# Altium footprint library Khoa so dien tu.PcbLib: 20 footprints (part 1 of 2)
Each footprint in its own frame and in the unit in brackets; x right, y up, seen from the top. Pads: shape width x height; smd on the part's side, far side on the other; paste and mask are expansions set on the pad; w line width, h text height; cw(c..) or ccw(c..) is an arc to the next point about the centre after c.
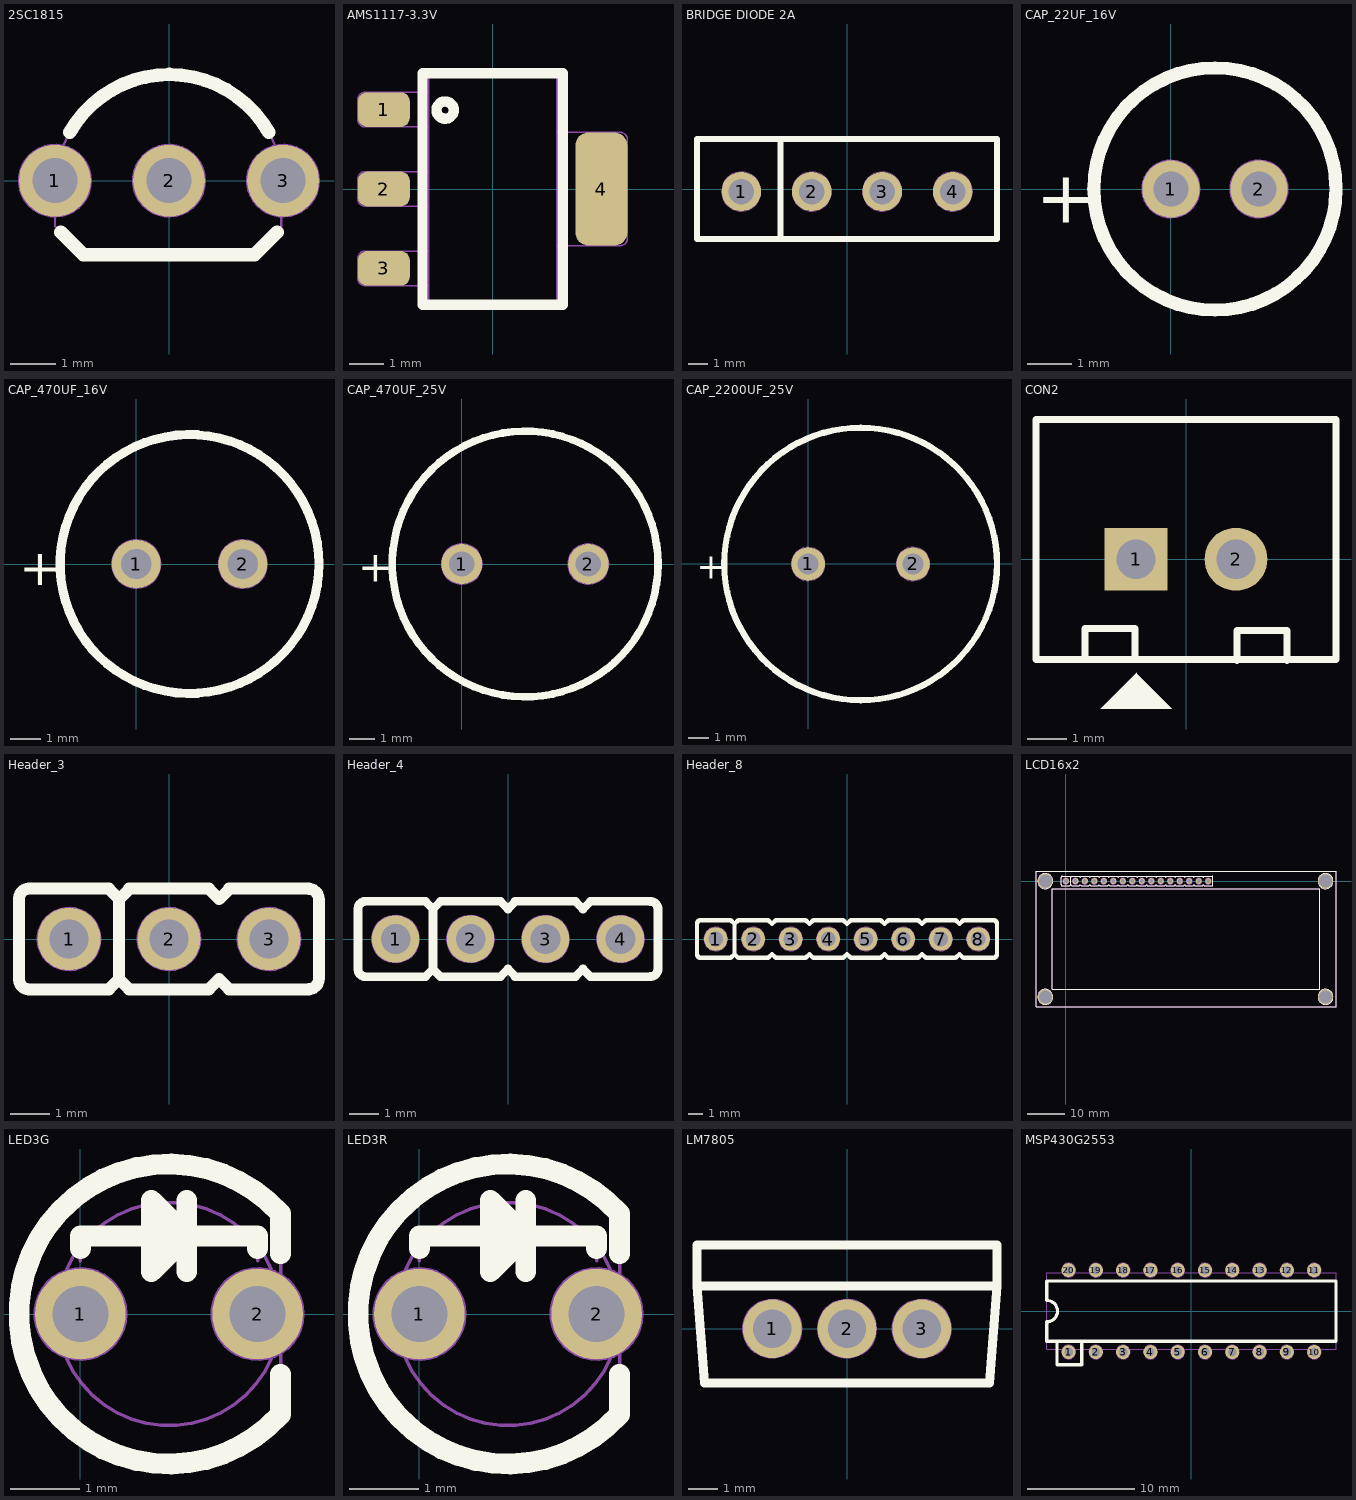
[diagram p0: the footprints below, top view; thin cyan lines are the x and y axes]

## 2SC1815 [mm] "TO-92 Bent Lead, Flat Index; 3 In-Line, Axial Leads; Body Dia. 4.5mm; Leads 0.51 x 0.48 mm (max)"
height 6.5
pads (3):
  round 1.6 hole 1 mask+0.1: 1(-2.54,0) 2(0,0)
  round 1.6 hole 1: 3(2.54,0)
Top Overlay:
  lines w0.3: -2.413,-1.143 -1.905,-1.651 1.905,-1.651 2.413,-1.143 ; -2.212,1.074 cw(c0.006,-0.185) 2.221,1.079
Mechanical 1:
  circle w0.05: c-2.54,0 r0.8
  circle w0.05: c0,0 r0.8
  circle w0.05: c2.54,0 r0.8
  lines w0.05: -2.54,-0.8 -2.54,-1.016 -1.905,-1.651 1.905,-1.651 2.5,-1.056 2.5,-0.8 ; -2.351,0.789 cw(c0.006,-0.185) 2.364,0.785
  text "B" at 2.286,-0.381 h0.8
  text "C" at -0.254,-0.381 h0.8
  text "E" at -2.794,-0.381 h0.8
Mechanical 15:
  lines w0.1: -0.5,0 0.5,0 ; 0,-0.5 0,0.5
3D body: height 10, standoff -3, extent -2.79,-1.59 2.79,2.613

## AMS1117-3.3V [mm] "SOT223, 4-Leads, Body 6.7x7.3mm (max), Pitch 2.30mm, IPC Medium Density"
height 1.8
pads (4):
  rrect50% 1.5x1 smd: 1(-3.15,2.3) 2(-3.15,0) 3(-3.15,-2.3)
  rrect50% 1.5x3.28 smd: 4(3.15,0)
Top Overlay:
  circle w0.3: c-1.375,2.286 r0.25
  lines w0.3: -2.032,-3.355 2.032,-3.355 2.032,3.355 -2.032,3.355 -2.032,-3.355
Mechanical 1:
  lines w0.05: -1.89,1.8 -3.7,1.8 cw(c-3.7,2) -3.9,2 -3.9,2.6 cw(c-3.7,2.6) -3.7,2.8 -1.89,2.8 ; -1.855,-2.8 -3.7,-2.8 cw(c-3.7,-2.6) -3.9,-2.6 -3.9,-2 cw(c-3.7,-2) -3.7,-1.8 -1.855,-1.8 ; -1.855,-0.5 -3.7,-0.5 cw(c-3.7,-0.3) -3.9,-0.3 -3.9,0.3 cw(c-3.7,0.3) -3.7,0.5 -1.855,0.5 ; 1.855,-1.64 3.7,-1.64 ccw(c3.7,-1.44) 3.9,-1.44 3.9,1.44 ccw(c3.7,1.44) 3.7,1.64 1.855,1.64 ; -1.855,-3.355 -1.855,3.355 1.855,3.355 1.855,-3.355 -1.855,-3.355
  text "1" at -1.575,2.52 h1.2
  text "2" at -1.575,0.315 h1.2
  text "3" at -1.575,-1.89 h1.2

## BRIDGE DIODE 2A [mm] "KBP206 bridge diode 2A"
height 12.7
pads (4):
  round 2 hole 1.3 mask+0.1: 1(-5.37,-0.13) 2(-1.79,-0.13) 3(1.79,-0.13) 4(5.37,-0.13)
Top Overlay:
  lines w0.3: -3.38,-2.54 -3.38,2.54 ; 7.62,-2.54 7.62,2.54 ; 7.62,-2.54 -7.62,-2.54 -7.62,2.54 7.62,2.54 ; 7.62,-2.54 7.62,2.54
Mechanical 1:
  circle w0.05: c5.37,-0.13 r1
  circle w0.05: c1.79,-0.13 r1
  circle w0.05: c-1.79,-0.13 r1
  circle w0.05: c-5.37,-0.13 r1
  lines w0.05: -3.38,-2.54 -3.38,2.54 ; 7.62,-2.54 7.62,2.54 ; 7.62,-2.54 -7.62,-2.54 -7.62,2.54 7.62,2.54 ; 7.62,-2.54 7.62,2.54
  text "~" at 1.5,0.2 h1.2
  text "~" at -2.2,0.2 h1.2
  text "-" at 5.1,0.9 h1.2
  text "+" at -5.7,1 h1.2
  text "4" at 4.9,-0.8 h1.2
  text "1" at -5.5,-0.7 h1.2

## CAP_22UF_16V [mm] "Capacitor, Electrolytic, Radial; Body 5 x 11 mm (Dia.xH typ); Pin Spacing 2 mm (typ)"
height 12
pads (2):
  round 1.3 hole 0.8: 1(0,0) 2(2,0)
Top Overlay:
  circle w0.3: c1,0 r2.75
  text "+" at -3.064,-0.762 h1.2
Mechanical 1:
  circle w0.05: c0,0 r0.65
  circle w0.05: c2,0 r0.65
  circle w0.05: c1,0 r2.75
  text "+" at -1.5,-0.5 h1
  text "1" at -0.2,-0.5 h1
  text "2" at 1.7,-0.5 h1
3D body: height 11.53, standoff -3.27, extent -1.525,-2.525 3.525,2.525

## CAP_470UF_16V [mm] "Capacitor, Electrolytic, Radial; Body 8 x 11.5 mm (Dia.xH typ); Pin Spacing 3.5 mm (typ)"
height 12.5
pads (2):
  round 1.6 hole 1: 1(0,0) 2(3.5,0)
Top Overlay:
  circle w0.3: c1.75,0 r4.25
  text "+" at -3.85,-0.7 h1.2
Mechanical 1:
  circle w0.05: c1.75,0 r4.25
  circle w0.05: c0,0 r0.8
  circle w0.05: c3.5,0 r0.8
  text "+" at -2.05,-0.7 h1.5
  text "1" at -0.25,-0.6 h1.2
  text "2" at 3.15,-0.6 h1.2
3D body: height 12.03, standoff -3.48, extent -2.275,-4.025 5.775,4.025

## CAP_470UF_25V [mm] "Capacitor, Electrolytic, Radial; Body 10 x 12.5 mm (Dia.xH typ); Pin Spacing 5 mm (typ)"
height 13.5
pads (2):
  round 1.6 hole 1: 1(0,0) 2(5,0)
Top Overlay:
  circle w0.3: c2.5,0 r5.25
  text "+" at -4.1,-0.7 h1.2
Mechanical 1:
  circle w0.05: c2.5,0 r5.25
  circle w0.05: c0,0 r0.8
  circle w0.05: c5,0 r0.8
  text "+" at -2.2,-0.8 h1.5
  text "1" at -0.2,-0.5 h1.2
  text "2" at 4.6,-0.6 h1.2
3D body: height 14.1, standoff -4.72, extent -2.5,-4.994 7.5,4.994

## CAP_2200UF_25V [mm] "Capacitor, Electrolytic, Radial; Body 12.5 x 25 mm (Dia.xH typ); Pin Spacing 5 mm (typ)"
height 27
pads (2):
  round 1.6 hole 1: 1(0,0) 2(5,0)
Top Overlay:
  circle w0.3: c2.5,0 r6.5
  text "+" at -5.3,-0.7 h1.2
Mechanical 1:
  circle w0.05: c2.5,0 r6.5
  circle w0.05: c0,0 r0.8
  circle w0.05: c5,0 r0.8
  text "2" at 4.7,-0.6 h1.2
  text "1" at -0.2,-0.6 h1.2
  text "+" at -2.9,-0.7 h1.5

## CON2 [mm] "CON2"
height 5.08
pads (2):
  rect 1.6x1.6 hole 1 mask+0.1: 1(-1.27,0)
  round 1.6 hole 1 mask+0.1: 2(1.27,0)
Top Overlay:
  region: -2.172,-3.797 -0.368,-3.797 -1.257,-2.908 -1.257,-2.883
  lines w0.178: -2.565,-2.515 -2.565,-1.753 -1.295,-1.753 -1.295,-2.515 ; 1.295,-2.565 1.295,-1.803 2.565,-1.803 2.565,-2.565 ; -3.81,-2.54 3.81,-2.54 3.81,3.556 -3.81,3.556 -3.81,-2.54
Mechanical 1:
  region: -2.172,-3.797 -0.368,-3.797 -1.257,-2.908 -1.257,-2.883
  lines w0.05: -2.565,-2.515 -2.565,-1.753 -1.295,-1.753 -1.295,-2.515 ; 1.295,-2.565 1.295,-1.803 2.565,-1.803 2.565,-2.565 ; -3.81,-2.54 3.81,-2.54 3.81,3.556 -3.81,3.556 -3.81,-2.54
3D body: height 7, standoff -3.3, extent -3.75,-2.286 3.75,3.414

## Header_3 [mm] "Connector DIP, 3Pin_2.54mm"
height 5
pads (3):
  round 1.6 hole 1 mask+0.1: 1(-2.54,0) 2(0,0) 3(2.54,0)
Top Overlay:
  lines w0.3: -1.524,-1.28 -1.524,-1.27 ; -1.524,1.27 -1.27,1.016 ; -1.524,1.28 -3.57,1.28 ccw(c-3.55,1.02) -3.81,1 -3.81,-1 ccw(c-3.55,-1.02) -3.57,-1.28 -1.534,-1.28 -1.524,-1.27 ; -1.016,1.27 -1.27,1.016 ; -1.016,1.28 1.016,1.28 ; 1.016,-1.28 -1.016,-1.28 -1.27,-1.026 -1.27,-1.016 ; 1.016,-1.27 1.27,-1.016 1.27,-1.026 1.524,-1.28 3.556,-1.28 3.556,-1.27 ; 1.016,1.27 1.27,1.016 1.524,1.27 ; 1.524,1.28 3.556,1.28 3.556,1.27 ; 3.53,-1.28 ccw(c3.53,-1) 3.81,-1 3.81,1 ccw(c3.53,1) 3.53,1.28 ; -1.524,-1.27 -1.27,-1.016 ; -1.27,-1.016 -1.27,1.016
Mechanical 1:
  circle w0.05: c0,0 r0.8
  circle w0.05: c-2.54,0 r0.8
  circle w0.05: c2.54,0 r0.8
  lines w0.05: -1.524,-1.28 -1.524,-1.27 ; -1.524,1.27 -1.27,1.016 -1.016,1.27 ; -1.524,1.28 -3.57,1.28 ccw(c-3.55,1.02) -3.81,1 -3.81,-1 ccw(c-3.55,-1.02) -3.57,-1.28 -1.534,-1.28 -1.524,-1.27 ; -1.016,1.28 1.016,1.28 ; 1.016,-1.28 -1.016,-1.28 -1.27,-1.026 -1.27,-1.016 -1.524,-1.27 ; 1.016,-1.27 1.27,-1.016 1.27,-1.026 1.524,-1.28 3.556,-1.28 3.556,-1.27 ; 1.016,1.27 1.27,1.016 1.524,1.27 ; 1.524,1.28 3.556,1.28 3.556,1.27 ; 3.53,-1.28 ccw(c3.53,-1) 3.81,-1 3.81,1 ccw(c3.53,1) 3.53,1.28
  text "3" at 2.286,-0.254 h1.2
  text "1" at -2.794,-0.254 h1.2
3D body: height 10.1, standoff -1.5, extent -3.81,-1.27 3.81,1.27

## Header_4 [mm] "Connector DIP, 4Pin_2.54mm"
height 5
pads (4):
  round 1.6 hole 1 mask+0.1: 1(-3.81,0) 2(-1.27,0) 3(1.27,0) 4(3.81,0)
Top Overlay:
  lines w0.3: -2.794,-1.28 -2.794,-1.27 ; -2.794,1.27 -2.54,1.016 ; -2.794,1.28 -4.84,1.28 ccw(c-4.82,1.02) -5.08,1 -5.08,-1 ccw(c-4.82,-1.02) -4.84,-1.28 -2.804,-1.28 -2.794,-1.27 ; -2.286,1.27 -2.54,1.016 ; -2.286,1.28 -0.254,1.28 -0.254,1.27 0,1.016 0.254,1.27 ; 0.24,-1.28 2.276,-1.28 2.286,-1.27 ; 0.24,1.28 2.286,1.28 ; 0.254,-1.27 0,-1.016 -0.254,-1.27 -0.254,-1.28 -2.286,-1.28 -2.54,-1.026 ; 2.286,-1.28 2.286,-1.27 ; 2.286,1.27 2.54,1.016 2.794,1.27 ; 2.794,1.28 4.826,1.28 4.826,1.27 ; 4.8,-1.28 ccw(c4.8,-1) 5.08,-1 5.08,1 ccw(c4.8,1) 4.8,1.28 ; 4.826,-1.27 4.826,-1.28 2.794,-1.28 2.54,-1.026 2.54,-1.016 2.286,-1.27 ; -2.794,-1.27 -2.54,-1.016 -2.54,-1.026 ; -2.54,-1.026 -2.54,1.016
Mechanical 1:
  circle w0.05: c3.81,0 r0.8
  circle w0.05: c1.27,0 r0.8
  circle w0.05: c-1.27,0 r0.8
  circle w0.05: c-3.81,0 r0.8
  circle w0.05: c-3.81,0 r0.8
  lines w0.05: -2.794,-1.28 -2.794,-1.27 ; -2.794,1.27 -2.54,1.016 -2.286,1.27 ; -2.794,1.28 -4.84,1.28 ccw(c-4.82,1.02) -5.08,1 -5.08,-1 ccw(c-4.82,-1.02) -4.84,-1.28 -2.804,-1.28 -2.794,-1.27 ; -2.286,1.28 -0.254,1.28 -0.254,1.27 0,1.016 0.254,1.27 ; 0.24,-1.28 2.276,-1.28 2.286,-1.27 ; 0.24,1.28 2.286,1.28 ; 0.254,-1.27 0,-1.016 -0.254,-1.27 -0.254,-1.28 -2.286,-1.28 -2.54,-1.026 -2.54,-1.016 -2.794,-1.27 ; 2.286,-1.28 2.286,-1.27 ; 2.286,1.27 2.54,1.016 2.794,1.27 ; 2.54,-1.026 2.794,-1.28 4.826,-1.28 4.826,-1.27 ; 2.54,-1.016 2.286,-1.27 ; 2.794,1.28 4.826,1.28 4.826,1.27 ; 4.8,-1.28 ccw(c4.8,-1) 5.08,-1 5.08,1 ccw(c4.8,1) 4.8,1.28
  text "1" at -4.064,-0.254 h1.2
  text "4" at 3.556,-0.254 h1.2
3D body: height 10.1, standoff -1.5, extent -5.08,-1.27 5.08,1.27

## Header_8 [mm] "Connector DIP Male, 8Pin_2.54mm"
height 5
pads (8):
  round 1.6 hole 1 mask+0.1: 1(-8.89,0) 2(-6.35,0) 3(-3.81,0) 4(-1.27,0) 5(1.27,0) 6(3.81,0) 7(6.35,0) 8(8.89,0)
Top Overlay:
  lines w0.3: -7.874,-1.28 -7.874,-1.27 ; -7.874,1.27 -7.62,1.016 ; -7.874,1.28 -9.92,1.28 ccw(c-9.9,1.02) -10.16,1 -10.16,-1 ccw(c-9.9,-1.02) -9.92,-1.28 -7.884,-1.28 -7.874,-1.27 ; -7.366,1.27 -7.62,1.016 ; -7.366,1.28 -5.334,1.28 -5.334,1.27 -5.08,1.016 -4.826,1.27 ; -4.84,-1.28 -2.804,-1.28 -2.794,-1.27 ; -4.84,1.28 -2.794,1.28 ; -4.826,-1.27 -5.08,-1.016 -5.334,-1.27 -5.334,-1.28 -7.366,-1.28 -7.62,-1.026 ; -2.794,-1.28 -2.794,-1.27 ; -2.794,1.27 -2.54,1.016 -2.286,1.27 ; -2.286,1.28 -0.254,1.28 -0.254,1.27 0,1.016 0.254,1.27 ; 0.24,-1.28 2.276,-1.28 2.286,-1.27 ; 0.24,1.28 2.286,1.28 ; 0.254,-1.27 0,-1.016 -0.254,-1.27 -0.254,-1.28 -2.286,-1.28 -2.54,-1.026 -2.54,-1.016 -2.794,-1.27 ; 2.286,-1.28 2.286,-1.27 ; 2.286,1.27 2.54,1.016 2.794,1.27 ; 2.794,1.28 4.826,1.28 4.826,1.27 5.08,1.016 5.334,1.27 ; 5.32,-1.28 7.356,-1.28 7.366,-1.27 ; 5.32,1.28 7.366,1.28 ; 5.334,-1.27 5.08,-1.016 4.826,-1.27 4.826,-1.28 2.794,-1.28 2.54,-1.026 2.54,-1.016 2.286,-1.27 ; 7.366,-1.28 7.366,-1.27 ; 7.366,1.27 7.62,1.016 7.874,1.27 ; 7.874,1.28 9.906,1.28 ; 9.906,-1.28 7.874,-1.28 7.62,-1.026 7.62,-1.016 7.366,-1.27 ; 9.92,-1.28 ccw(c9.9,-1.02) 10.16,-1 10.16,1 ccw(c9.9,1.02) 9.92,1.28 ; -7.874,-1.27 -7.62,-1.016 -7.62,-1.026 ; -7.62,-1.026 -7.62,1.016
Mechanical 1:
  circle w0.05: c8.89,0 r0.8
  circle w0.05: c6.35,0 r0.8
  circle w0.05: c3.81,0 r0.8
  circle w0.05: c1.27,0 r0.8
  circle w0.05: c-1.27,0 r0.8
  circle w0.05: c-3.81,0 r0.8
  circle w0.05: c-6.35,0 r0.8
  circle w0.05: c-8.89,0 r0.8
  circle w0.05: c-8.89,0 r0.8
  lines w0.05: -7.874,-1.28 -7.874,-1.27 ; -7.874,1.27 -7.62,1.016 -7.366,1.27 ; -7.874,1.28 -9.92,1.28 ccw(c-9.9,1.02) -10.16,1 -10.16,-1 ccw(c-9.9,-1.02) -9.92,-1.28 -7.884,-1.28 -7.874,-1.27 ; -7.366,1.28 -5.334,1.28 -5.334,1.27 -5.08,1.016 -4.826,1.27 ; -4.84,-1.28 -2.804,-1.28 -2.794,-1.27 ; -4.84,1.28 -2.794,1.28 ; -4.826,-1.27 -5.08,-1.016 -5.334,-1.27 -5.334,-1.28 -7.366,-1.28 -7.62,-1.026 -7.62,-1.016 -7.874,-1.27 ; -2.794,-1.28 -2.794,-1.27 ; -2.794,1.27 -2.54,1.016 -2.286,1.27 ; -2.286,1.28 -0.254,1.28 -0.254,1.27 0,1.016 0.254,1.27 ; 0.24,-1.28 2.276,-1.28 2.286,-1.27 ; 0.24,1.28 2.286,1.28 ; 0.254,-1.27 0,-1.016 -0.254,-1.27 -0.254,-1.28 -2.286,-1.28 -2.54,-1.026 -2.54,-1.016 -2.794,-1.27 ; 2.286,-1.28 2.286,-1.27 ; 2.286,1.27 2.54,1.016 2.794,1.27 ; 2.794,1.28 4.826,1.28 4.826,1.27 5.08,1.016 5.334,1.27 ; 5.32,-1.28 7.356,-1.28 7.366,-1.27 ; 5.32,1.28 7.366,1.28 ; 5.334,-1.27 5.08,-1.016 4.826,-1.27 4.826,-1.28 2.794,-1.28 2.54,-1.026 2.54,-1.016 2.286,-1.27 ; 7.366,-1.28 7.366,-1.27 ; 7.366,1.27 7.62,1.016 7.874,1.27 ; 7.874,1.28 9.906,1.28 ; 9.906,-1.28 7.874,-1.28 7.62,-1.026 7.62,-1.016 7.366,-1.27 ; 9.92,-1.28 ccw(c9.9,-1.02) 10.16,-1 10.16,1 ccw(c9.9,1.02) 9.92,1.28
  text "8" at 8.6,-0.4 h1.2
  text "1" at -9.1,-0.4 h1.2
3D body: height 10.1, standoff -1.5, extent -10.16,-1.27 10.16,1.27

## LCD16x2 [mm] "LCD 16x2, 36.3mmx80.3mm"
height 13
pads (20):
  round 1.6 hole 1 mask+0.1: 1(0,0) 2(2.54,0) 3(5.08,0) 4(7.62,0) 5(10.16,0) 6(12.7,0) 7(15.24,0) 8(17.78,0) 9(20.32,0) 10(22.86,0) 11(25.4,0) 12(27.94,0) 13(30.48,0) 14(33.02,0) 15(35.56,0) 16(38.1,0)
  round 4 hole 3.5: Hole_0(-5.5,0) Hole_1(-5.5,-31) Hole_3(69.5,-31) Hole_4(69.5,0)
Top Overlay:
  drawing of 154 lines, arcs and shapes, not listed
Mechanical 1:
  drawing of 190 lines, arcs and shapes, not listed
  text "16" at 37.55,-0.4 h1.2
  text "1" at -0.15,-0.4 h1.2
3D body: height 10.52, standoff -2.69, extent -8.25,-33.75 72.25,2.75
3D body: height 1.5, standoff -10.1, extent -1.27,-1.27 39.37,1.27

## LED3G [mm] "LED 3mm_GREEN"
height 5.5
pads (2):
  round 1.3 hole 0.8: 1(0,0) 2(2.54,0)
Top Overlay:
  lines w0.3: 0,0.94 0,1.116 1.016,1.116 ; 1.092,1.548 1.092,0.684 ; 1.168,1.472 1.168,0.76 1.092,0.684 ; 1.245,1.395 1.245,0.837 1.321,0.913 ; 1.321,1.319 1.321,0.913 ; 1.397,1.243 1.397,0.989 1.321,0.913 ; 1.524,0.608 1.524,1.624 ; 2.54,0.94 2.54,1.116 2.286,1.116 1.524,1.116 ; 2.869,-1.437 cw(c1.27,0) 2.869,1.437 ; 2.87,-1.438 2.87,-0.864 ; 2.87,0.864 2.87,1.438 ; 1.016,0.608 1.092,0.684 ; 1.016,0.608 1.524,1.116 ; 1.016,0.608 1.016,1.624 1.524,1.116
Mechanical 1:
  circle w0.05: c2.54,0 r0.65
  circle w0.05: c0,0 r0.65
  circle w0.05: c1.27,0 r1.6
  lines w0.05: 0,0.762 0,1.016 1.016,1.016 ; 1.092,1.448 1.092,0.584 ; 1.168,1.372 1.168,0.66 1.092,0.584 ; 1.245,1.295 1.245,0.737 1.321,0.813 ; 1.321,1.219 1.321,0.813 ; 1.397,1.143 1.397,0.889 1.321,0.813 ; 1.524,0.508 1.524,1.524 ; 2.54,0.762 2.54,1.016 2.286,1.016 1.524,1.016 ; 2.868,-1.438 cw(c1.27,0) 2.868,1.438 ; 2.87,-1.438 2.87,1.438 ; 1.016,0.508 1.016,1.524 1.524,1.016 ; 1.016,0.508 1.524,1.016 ; 1.016,0.508 1.092,0.584
3D body: height 4.6, standoff -6.5, extent -0.73,-2 2.937,2

## LED3R [mm] "LED 3mm_RED"
height 5.5
pads (2):
  round 1.3 hole 0.8: 1(0,0) 2(2.54,0)
Top Overlay:
  lines w0.3: 0,0.94 0,1.116 1.016,1.116 ; 1.092,1.548 1.092,0.684 ; 1.168,1.472 1.168,0.76 1.092,0.684 ; 1.245,1.395 1.245,0.837 1.321,0.913 ; 1.321,1.319 1.321,0.913 ; 1.397,1.243 1.397,0.989 1.321,0.913 ; 1.524,0.608 1.524,1.624 ; 2.54,0.94 2.54,1.116 2.286,1.116 1.524,1.116 ; 2.869,-1.437 cw(c1.27,0) 2.869,1.437 ; 2.87,-1.438 2.87,-0.864 ; 2.87,0.864 2.87,1.438 ; 1.016,0.608 1.016,1.624 1.524,1.116 ; 1.016,0.608 1.524,1.116 ; 1.016,0.608 1.092,0.684
Mechanical 1:
  circle w0.05: c1.27,0 r1.6
  circle w0.05: c0,0 r0.65
  circle w0.05: c2.54,0 r0.65
  lines w0.05: 0,0.762 0,1.016 1.016,1.016 ; 1.092,1.448 1.092,0.584 ; 1.168,1.372 1.168,0.66 1.092,0.584 ; 1.245,1.295 1.245,0.737 1.321,0.813 ; 1.321,1.219 1.321,0.813 ; 1.397,1.143 1.397,0.889 1.321,0.813 ; 1.524,0.508 1.524,1.524 ; 2.54,0.762 2.54,1.016 2.286,1.016 1.524,1.016 ; 2.868,-1.438 cw(c1.27,0) 2.868,1.438 ; 2.87,-1.438 2.87,1.438 ; 1.016,0.508 1.092,0.584 ; 1.016,0.508 1.524,1.016 ; 1.016,0.508 1.016,1.524 1.524,1.016
3D body: height 4.6, standoff -6.5, extent -0.73,-2 2.937,2

## LM7805 [mm] "POWER IC 7805"
height 15.49
pads (3):
  round 2 hole 1.3: 1(-2.54,0) 2(0,0) 3(2.54,0)
Top Overlay:
  lines w0.3: -5.1,1.451 -4.85,-1.85 4.85,-1.85 5.1,1.451 ; -5.1,1.45 5.1,1.45 5.1,2.85 -5.1,2.85 -5.1,1.45
Mechanical 1:
  circle w0.05: c2.54,0 r1
  circle w0.05: c0,0 r1
  circle w0.05: c-2.54,0 r1
  lines w0.05: -5.1,1.451 -4.85,-1.85 4.85,-1.85 5.1,1.451 ; -5.1,1.45 -5.1,2.85 5.1,2.85 5.1,1.45 -5.1,1.45
  text "O" at 2.159,1.524 h1.2
  text "G" at -0.381,1.524 h1.2
  text "I" at -2.667,1.524 h1.2

## MSP430G2553 [mm] "DIP 20, 20 PIN, W 300mil, Pin to pin 100mil"
height 4.06
pads (20):
  round 1.3 hole 0.8: 1(-11.43,-3.81) 2(-8.89,-3.81) 3(-6.35,-3.81) 4(-3.81,-3.81) 5(-1.27,-3.81) 6(1.27,-3.81) 7(3.81,-3.81) 8(6.35,-3.81) 9(8.89,-3.81) 10(11.43,-3.81) 11(11.43,3.81) 12(8.89,3.81) 13(6.35,3.81) 14(3.81,3.81) 15(1.27,3.81) 16(-1.27,3.81) 17(-3.81,3.81) 18(-6.35,3.81) 19(-8.89,3.81) 20(-11.43,3.81)
Top Overlay:
  lines w0.3: -12.5,-2.8 -12.5,-5 -10.2,-5 -10.2,-2.8 ; -13.46,-2.8 13.46,-2.8 13.46,2.8 -13.46,2.8 -13.46,1 cw(c-13.46,0) -13.46,-1 -13.46,-2.8
Mechanical 1:
  circle w0.05: c11.43,3.81 r0.65
  circle w0.05: c8.89,3.81 r0.65
  circle w0.05: c6.35,3.81 r0.65
  circle w0.05: c3.81,3.81 r0.65
  circle w0.05: c1.27,3.81 r0.65
  circle w0.05: c-1.27,3.81 r0.65
  circle w0.05: c-3.81,3.81 r0.65
  circle w0.05: c-6.35,3.81 r0.65
  circle w0.05: c-8.89,3.81 r0.65
  circle w0.05: c-11.43,3.81 r0.65
  circle w0.05: c-11.43,-3.81 r0.65
  circle w0.05: c11.43,-3.81 r0.65
  circle w0.05: c8.89,-3.81 r0.65
  circle w0.05: c6.35,-3.81 r0.65
  circle w0.05: c3.81,-3.81 r0.65
  circle w0.05: c1.27,-3.81 r0.65
  circle w0.05: c-1.27,-3.81 r0.65
  circle w0.05: c-3.81,-3.81 r0.65
  circle w0.05: c-6.35,-3.81 r0.65
  circle w0.05: c-8.89,-3.81 r0.65
  lines w0.05: -13.46,-1 ccw(c-13.46,0) -13.46,1 ; -13.46,-3.555 13.46,-3.555 13.46,3.555 -13.46,3.555 -13.46,-3.555
  text "20" at -12.4,1.3 h1.2
  text "11" at 10.7,1.3 h1.2
  text "10" at 10.7,-2.4 h1.2
  text "1" at -11.7,-2.5 h1.2
3D body: height 3.94, standoff -3.3, extent -13.741,-4.267 12.573,4.369